# EAGLE library part HE14_AUTOCOM_6 (library Robotik-Connectors)
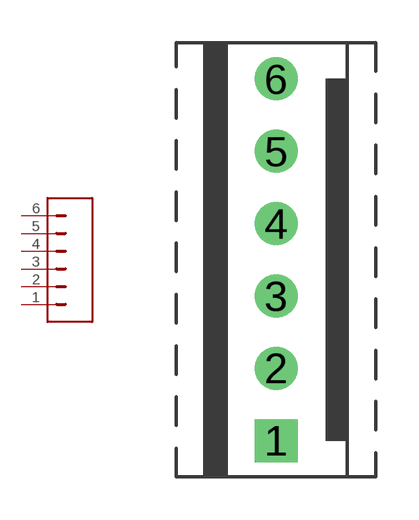
[diagram p0: symbol with the pads of HE14_AUTOCOM_6; footprint HE14_AUTOCOM_6]

Designator prefix -

## HE14_AUTOCOM_6  [HE14_AUTOCOM_6]
1  1
2  2
3  3
4  4
5  5
6  6

## Footprint HE14_AUTOCOM_6 (pad centres in mm)
drill 1 square: 1 0,0
drill 1: 2 0,2.54; 3 0,5.08; 4 0,7.62; 5 0,10.16; 6 0,12.7